# Altium footprint library FSLP Pcblib.PcbLib: 7 footprints
Each footprint in its own frame and in the unit in brackets; x right, y up, seen from the top. Pads: shape width x height; smd on the part's side, far side on the other; paste and mask are expansions set on the pad; w line width, h text height; cw(c..) or ccw(c..) is an arc to the next point about the centre after c.
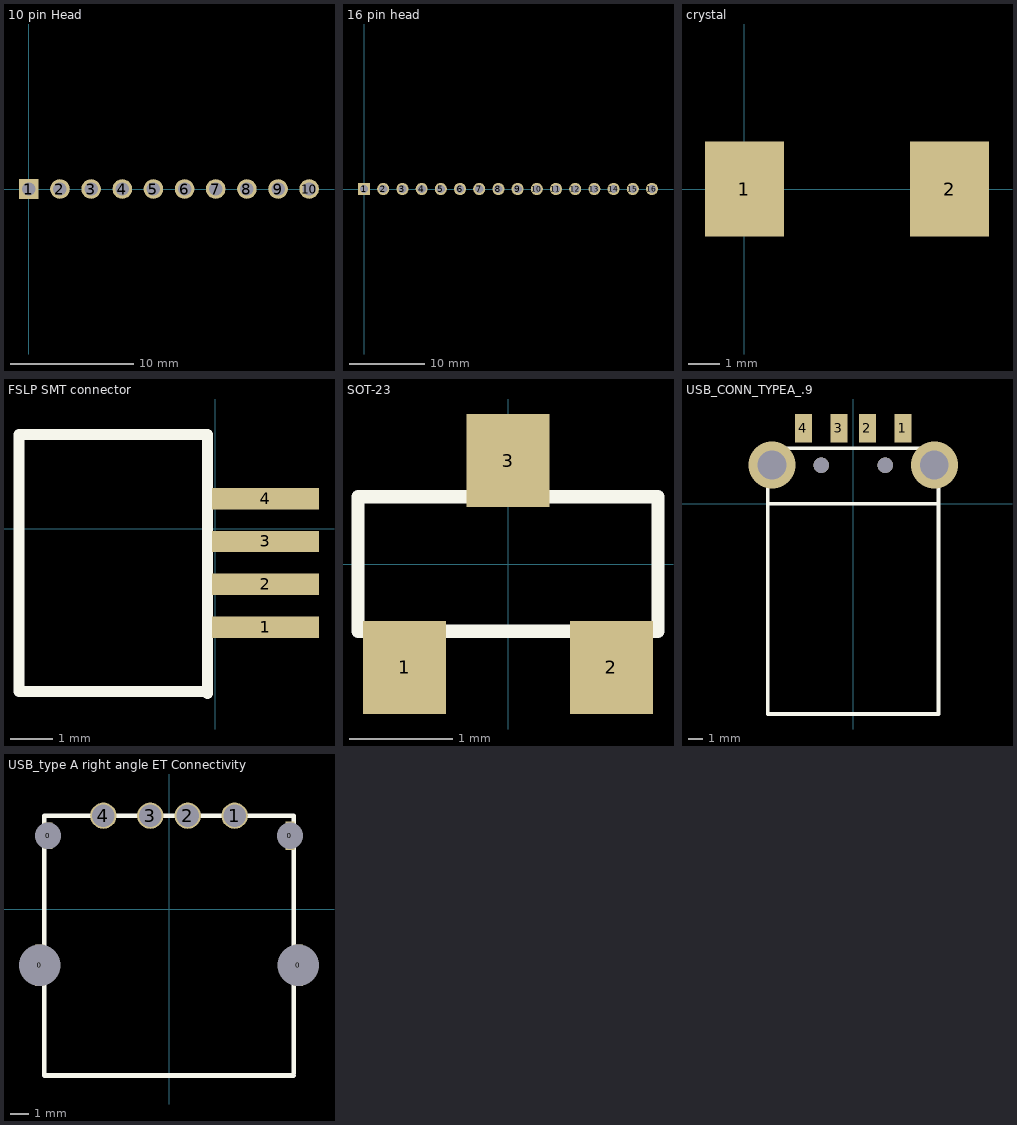
[diagram p0: the footprints below, top view; thin cyan lines are the x and y axes]

## 10 pin Head [mm] "Connector; Header; 10 Position; Right Angle"
pads (10):
  rect 1.6x1.6 hole 1.1: 1(0,0)
  round 1.6 hole 1.1: 2(2.54,0) 3(5.08,0) 4(7.62,0) 5(10.16,0) 6(12.7,0) 7(15.24,0) 8(17.78,0) 9(20.32,0) 10(22.86,0)

## 16 pin head [mm] "Connector; Header; 16 Position; Right Angle"
pads (16):
  rect 1.6x1.6 hole 1.1: 1(0,0)
  round 1.6 hole 1.1: 2(2.54,0) 3(5.08,0) 4(7.62,0) 5(10.16,0) 6(12.7,0) 7(15.24,0) 8(17.78,0) 9(20.32,0) 10(22.86,0) 11(25.4,0) 12(27.94,0) 13(30.48,0) 14(33.02,0) 15(35.56,0) 16(38.1,0)

## crystal [mm]
height 0.85
pads (2):
  rect 2.5x3 smd: 1(0,0) 2(6.5,0)

## FSLP SMT connector [mm] "JST 4-pin SMT Connector"
pads (4):
  rect 2.5x0.5 smd: 1(1.175,-2.3) 2(1.175,-1.3) 3(1.175,-0.3) 4(1.175,0.7)
Top Overlay:
  lines w0.254: -0.175,-3.85 -0.175,2.2 ; -0.175,-3.8 -0.175,2.2 ; -0.175,-3.8 -0.175,2.2 ; -0.175,-3.8 -4.575,-3.8 -4.575,2.2 -0.175,2.2

## SOT-23 [mm]
height 1.1
pads (3):
  rect 0.8x0.9 smd: 1(-1,-1) 2(1,-1) 3(0,1)
Top Overlay:
  lines w0.127: -1.45,-0.65 1.45,-0.65 1.45,0.65 -1.45,0.65 -1.45,-0.65
3D body: height 1.1, standoff 0.1, extent -1.45,-0.65 1.45,0.65

## USB_CONN_TYPEA_.9 [mm]
pads (4):
  rect 1.199x1.999 smd: 1(3.5,5.298) 2(1,5.298) 3(-1,5.298) 4(-3.5,5.298)
via 2.25,2.7 diameter 1.1 hole 1.1
via 5.7,2.7 diameter 3.302 hole 2.032
via -5.7,2.7 diameter 3.302 hole 2.032
via -2.25,2.7 diameter 1.1 hole 1.1
Top Overlay:
  lines w0.254: -5.994,0 5.994,0 ; -5.994,-14.783 5.994,-14.783 5.994,3.886 -5.994,3.886 -5.994,-14.783
Drill Guide:
  lines w1.016: -6.858,-1.524 -6.858,0.762

## USB_type A right angle ET Connectivity [mm]
pads (8):
  rect 0.5x2.2 hole 2.2 unplated: 0(-6.9,-2.98) 0(6.9,-2.98)
  rect 0.5x1.4 hole 1.4 unplated: 0(-6.45,3.93)
  rect 0.5x1.5 hole 1.4 unplated: 0(6.45,3.93)
  round 1.4 hole 1.2: 1(3.5,5) 2(1,5) 3(-1,5) 4(-3.5,5)
Top Overlay:
  lines w0.254: 6.65,-8.85 -6.65,-8.85 -6.65,5 6.65,5 6.65,-8.725